# Altium footprint library Airpurity.PcbLib: 24 footprints (part 2 of 2)
Each footprint in its own frame and in the unit in brackets; x right, y up, seen from the top. Pads: shape width x height; smd on the part's side, far side on the other; paste and mask are expansions set on the pad; w line width, h text height; cw(c..) or ccw(c..) is an arc to the next point about the centre after c.
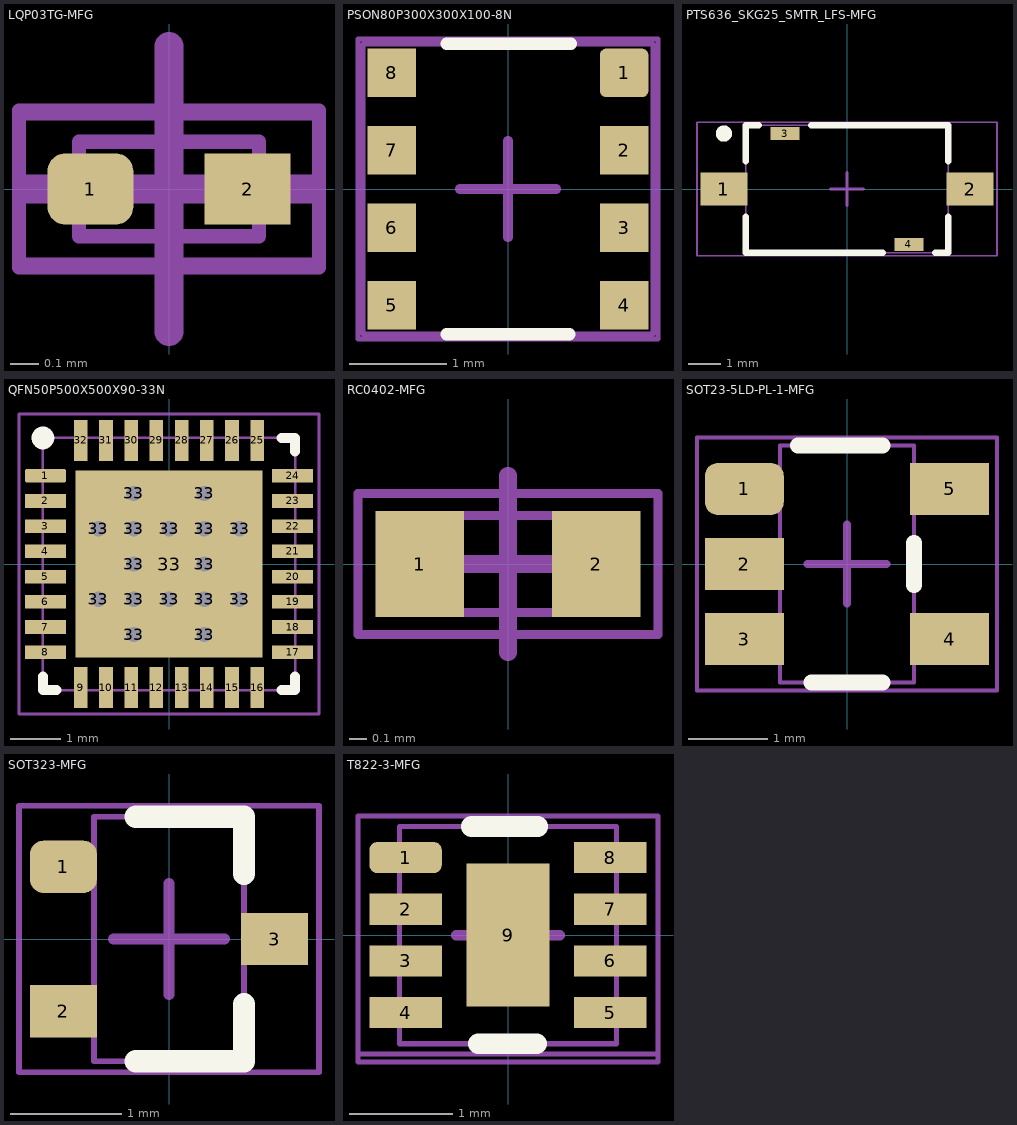
[diagram p1: the footprints below, top view; thin cyan lines are the x and y axes]

## LQP03TG-MFG [mm]
pads (2):
  rrect50% 0.3x0.25 smd: 1(-0.275,0)
  rect 0.3x0.25 smd: 2(0.275,0)
Top Assembly:
  lines w0.05: -0.525,-0.265 0.525,-0.265 0.525,0.265 -0.525,0.265 -0.525,-0.265
Top 3D Body:
  lines w0.05: -0.315,-0.165 0.315,-0.165 0.315,0.165 -0.315,0.165 -0.315,-0.165
Top Courtyard:
  lines w0.05: -0.525,-0.275 0.525,-0.275 0.525,0.275 -0.525,0.275 -0.525,-0.275
Top Component Center:
  lines w0.1: -0.5,0 0.5,0 ; 0,-0.5 0,0.5
3D body "Ind_Murata_LQP03TN3N7BZ2J_eec.STEP": height 0.25, standoff 0, extent -0.525,-0.265 0.525,0.265

## PSON80P300X300X100-8N [mm]
height 1
pads (8):
  rrect25% 0.5x0.5 smd: 1(1.2,1.2)
  rect 0.5x0.5 smd: 2(1.2,0.4) 3(1.2,-0.4) 4(1.2,-1.2) 5(-1.2,-1.2) 6(-1.2,-0.4) 7(-1.2,0.4) 8(-1.2,1.2)
Top Overlay:
  lines w0.127: -0.635,-1.5 0.635,-1.5 ; -0.635,1.5 0.652,1.5
Top 3D Body:
  lines w0.05: -1.5,-1.5 -1.5,1.5 1.5,1.5 1.5,-1.5 -1.5,-1.5
Top Courtyard:
  lines w0.05: -1.55,-1.55 -1.55,1.55 1.55,1.55 1.55,-1.55 -1.55,-1.55
Top Component Center:
  lines w0.1: -0.5,0 0.5,0 ; 0,-0.5 0,0.5
3D body "BME680.step": height 0.93, standoff -0.01, extent -1.5,-1.5 1.5,1.5

## PTS636_SKG25_SMTR_LFS-MFG [mm]
pads (4):
  rect 1.45x1 smd: 1(-3.775,0) 2(3.775,0)
  rect 0.9x0.4 smd: 3(-1.9,1.7) 4(1.9,-1.7)
Top Overlay:
  circle w0.25: c-3.775,1.7 r0.125
  lines w0.2: -3.1,-0.852 -3.1,-1.95 1.098,-1.95 ; -3.1,0.852 -3.1,1.95 -2.702,1.95 ; -1.098,1.95 3.1,1.95 3.1,0.852 ; 2.702,-1.95 3.1,-1.95 3.1,-0.852
Top Assembly:
  lines w0.05: -4.6,-2.05 -4.6,2.05 4.6,2.05 4.6,-2.05 -4.6,-2.05
Top 3D Body:
  lines w0.05: -3.1,-1.95 -3.1,1.95 3.1,1.95 3.1,-1.95 -3.1,-1.95
Top Courtyard:
  lines w0.05: -4.6,-2.05 -4.6,2.05 4.6,2.05 4.6,-2.05 -4.6,-2.05
Top Component Center:
  lines w0.1: -0.5,0 0.5,0 ; 0,-0.5 0,0.5
3D body "Switch_C&K_Components_PTS636_SKG25_SMTR_LFS_eec.STEP": height 0.25, standoff 0, extent -4.6,-2.05 4.6,2.05

## QFN50P500X500X90-33N [mm]
pads (49):
  rrect25% 0.81x0.27 smd: 1(-2.45,1.75)
  rect 0.81x0.27 smd: 2(-2.45,1.25) 3(-2.45,0.75) 4(-2.45,0.25) 5(-2.45,-0.25) 6(-2.45,-0.75) 7(-2.45,-1.25) 8(-2.45,-1.75) 17(2.45,-1.75) 18(2.45,-1.25) 19(2.45,-0.75) 20(2.45,-0.25) 21(2.45,0.25) 22(2.45,0.75) 23(2.45,1.25) 24(2.45,1.75)
  rect 0.27x0.81 smd: 9(-1.75,-2.45) 10(-1.25,-2.45) 11(-0.75,-2.45) 12(-0.25,-2.45) 13(0.25,-2.45) 14(0.75,-2.45) 15(1.25,-2.45) 16(1.75,-2.45) 25(1.75,2.45) 26(1.25,2.45) 27(0.75,2.45) 28(0.25,2.45) 29(-0.25,2.45) 30(-0.75,2.45) 31(-1.25,2.45) 32(-1.75,2.45)
  round 0.5 hole 0.3 mask+0: 33(-1.4,-0.7) 33(-1.4,0.7) 33(-0.7,-1.4) 33(-0.7,-0.7) 33(-0.7,0) 33(-0.7,0.7) 33(-0.7,1.4) 33(0,-0.7) 33(0,0.7) 33(0.7,-1.4) 33(0.7,-0.7) 33(0.7,0) 33(0.7,0.7) 33(0.7,1.4) 33(1.4,-0.7) 33(1.4,0.7)
  rect 3.7x3.7 smd paste-1.4: 33(0,0)
Top Overlay:
  circle w0.25: c-2.5,2.5 r0.1
  lines w0.2: -2.5,-2.237 -2.5,-2.5 -2.237,-2.5 ; 2.237,-2.5 2.5,-2.5 2.5,-2.237 ; 2.237,2.5 2.5,2.5 2.5,2.237
Top Paste:
  region: 1.85,0.95 0.95,0.95 0.95,1.85 1.85,1.85
  region: 1.85,-0.45 0.95,-0.45 0.95,0.45 1.85,0.45
  region: 1.85,-1.85 0.95,-1.85 0.95,-0.95 1.85,-0.95
  region: 0.45,0.95 -0.45,0.95 -0.45,1.85 0.45,1.85
  region: -0.95,0.95 -1.85,0.95 -1.85,1.85 -0.95,1.85
  region: -0.95,-0.45 -1.85,-0.45 -1.85,0.45 -0.95,0.45
  region: 0.45,-1.85 -0.45,-1.85 -0.45,-0.95 0.45,-0.95
  region: -0.95,-1.85 -1.85,-1.85 -1.85,-0.95 -0.95,-0.95
Top 3D Body:
  lines w0.05: -2.5,-2.5 -2.5,2.5 2.5,2.5 2.5,-2.5 -2.5,-2.5
Top Courtyard:
  lines w0.05: -2.975,-2.975 -2.975,2.975 2.975,2.975 2.975,-2.975 -2.975,-2.975
Top Component Center:
  lines w0.1: -0.5,0 0.5,0 ; 0,-0.5 0,0.5
3D body "ESP32-C3-SOC.STEP": height 0.87, standoff 0, extent -2.501,-2.501 2.501,2.501

## RC0402-MFG [mm]
pads (2):
  rect 0.5x0.6 smd: 1(-0.5,0) 2(0.5,0)
Top Assembly:
  lines w0.05: -0.85,-0.4 0.85,-0.4 0.85,0.4 -0.85,0.4 -0.85,-0.4
Top 3D Body:
  lines w0.05: -0.525,-0.275 0.525,-0.275 0.525,0.275 -0.525,0.275 -0.525,-0.275
Top Courtyard:
  lines w0.05: -0.85,-0.4 0.85,-0.4 0.85,0.4 -0.85,0.4 -0.85,-0.4
Top Component Center:
  lines w0.1: -0.5,0 0.5,0 ; 0,-0.5 0,0.5
3D body "Res_Yageo_AC0402FR-0716R2L_eec.STEP": height 0.25, standoff 0, extent -0.85,-0.4 0.85,0.4

## SOT23-5LD-PL-1-MFG [mm]
pads (5):
  rrect50% 1x0.66 smd: 1(-1.3,0.95)
  rect 1x0.66 smd: 2(-1.3,0) 3(-1.3,-0.95) 4(1.3,-0.95) 5(1.3,0.95)
Top Overlay:
  lines w0.2: -0.621,1.5 0.448,1.5 ; -0.448,-1.5 0.448,-1.5 ; 0.85,-0.268 0.85,0.268
Top Assembly:
  lines w0.05: -1.9,-1.6 -1.9,1.6 1.9,1.6 1.9,-1.6 -1.9,-1.6
Top 3D Body:
  lines w0.05: -0.85,-1.5 0.85,-1.5 0.85,1.5 -0.85,1.5 -0.85,-1.5
Top Courtyard:
  lines w0.05: -1.9,-1.6 -1.9,1.6 1.9,1.6 1.9,-1.6 -1.9,-1.6
Top Component Center:
  lines w0.1: -0.5,0 0.5,0 ; 0,-0.5 0,0.5
3D body "IC_Microchip_MIC7300YM5-TR_eec.STEP": height 0.25, standoff 0, extent -1.9,-1.6 1.9,1.6

## SOT323-MFG [mm]
pads (3):
  rrect50% 0.6x0.47 smd: 1(-0.95,0.65)
  rect 0.6x0.47 smd: 2(-0.95,-0.65) 3(0.95,0)
Top Overlay:
  lines w0.2: -0.298,-1.1 0.675,-1.1 0.675,-0.587 ; -0.298,1.1 0.675,1.1 0.675,0.587
Top Assembly:
  lines w0.05: -1.35,-1.2 -1.35,1.2 1.35,1.2 1.35,-1.2 -1.35,-1.2
Top 3D Body:
  lines w0.05: -0.675,-1.1 -0.675,1.1 0.675,1.1 0.675,-1.1 -0.675,-1.1
Top Courtyard:
  lines w0.05: -1.35,-1.2 -1.35,1.2 1.35,1.2 1.35,-1.2 -1.35,-1.2
Top Component Center:
  lines w0.1: -0.5,0 0.5,0 ; 0,-0.5 0,0.5
3D body "Trans_Diodes_Inc_BC847BW-7-F_eec.STEP": height 0.25, standoff 0, extent -1.35,-1.2 1.35,1.2

## T822-3-MFG [mm]
pads (9):
  rrect50% 0.7x0.3 smd: 1(-0.99,0.75)
  rect 0.7x0.3 smd: 2(-0.99,0.25) 3(-0.99,-0.25) 4(-0.99,-0.75) 5(0.99,-0.75) 6(0.99,-0.25) 7(0.99,0.25) 8(0.99,0.75)
  rect 0.8x1.38 smd: 9(0,0)
Top Overlay:
  lines w0.2: -0.353,1.05 0.288,1.05 ; -0.288,-1.05 0.277,-1.05
Top Assembly:
  lines w0.05: -1.45,-1.15 1.45,-1.15 1.45,1.15 -1.45,1.15 -1.45,-1.15
Top 3D Body:
  lines w0.05: -1.05,-1.05 1.05,-1.05 1.05,1.05 -1.05,1.05 -1.05,-1.05
Top Courtyard:
  lines w0.05: -1.45,-1.225 -1.45,1.15 1.45,1.15 1.45,-1.225 -1.45,-1.225
Top Component Center:
  lines w0.1: -0.5,0 0.5,0 ; 0,-0.5 0,0.5
3D body "IC_Maxim_Electronics_MAX17048G+_eec.STEP": height 0.25, standoff 0, extent -1.44,-1.15 1.44,1.15